# EAGLE library part HSWA2-30DR+ (library OSSI)
SPDT RF Switch Mini-Circuits +3V supply 50 Ohm matched DC ~3GHz DC ~3GHz Maximum input power: 33dBm
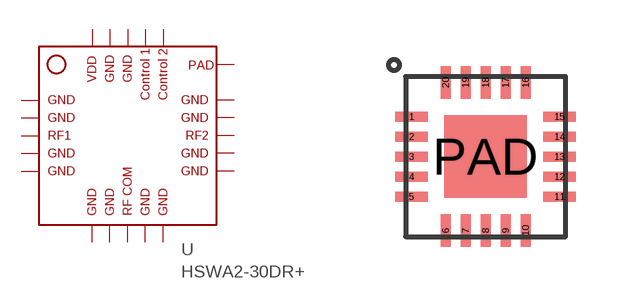
[diagram p17: symbol with the pads of DG983-1; footprint DG983-1]

Designator prefix U

## HSWA2-30DR+  [DG983-1]
1  P$1  pwr
2  P$2  pwr
3  P$3
4  P$4  pwr
5  P$5  pwr
6  P$6  pwr
7  P$7  pwr
8  P$8
9  P$9  pwr
10  P$10  pwr
11  P$11  pwr
12  P$12  pwr
13  P$13
14  P$14  pwr
15  P$15  pwr
16  P$16  in
17  P$17  in
18  P$18  pwr
19  P$19  pwr
20  P$20  pwr
PAD  P$21  in

## Footprint DG983-1 (pad centres in mm)
smd 0.81 x 0.25: 1 -1.85,1; 2 -1.85,0.5; 3 -1.85,0; 4 -1.85,-0.5; 5 -1.85,-1; 11 1.85,-1; 12 1.85,-0.5; 13 1.85,0; 14 1.85,0.5; 15 1.85,1
smd 0.25 x 0.81: 6 -1,-1.85; 7 -0.5,-1.85; 8 0,-1.85; 9 0.5,-1.85; 10 1,-1.85; 16 1,1.85; 17 0.5,1.85; 18 0,1.85; 19 -0.5,1.85; 20 -1,1.85
smd 2.06 x 2.06: PAD 0,0